# Altium integrated library ERJPA2F3300X.IntLib: 1 symbol
Pins are listed as number, name and electrical type; pins without a type are passive.

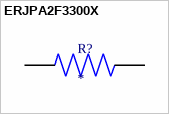
[diagram p0: symbol ERJPA2F3300X]

## ERJPA2F3300X
designator R?
MP: ERJPA2F3300X; Value: *; Availability: Unavailable; Price: None; Package: None
footprint RES_ERJPA2F3300X
pins: 1, 2